# Altium footprint library Analog Devices Footprints.PcbLib: 248 footprints (part 15 of 16)
Each footprint in its own frame and in the unit in brackets; x right, y up, seen from the top. Pads: shape width x height; smd on the part's side, far side on the other; paste and mask are expansions set on the pad; w line width, h text height; cw(c..) or ccw(c..) is an arc to the next point about the centre after c.
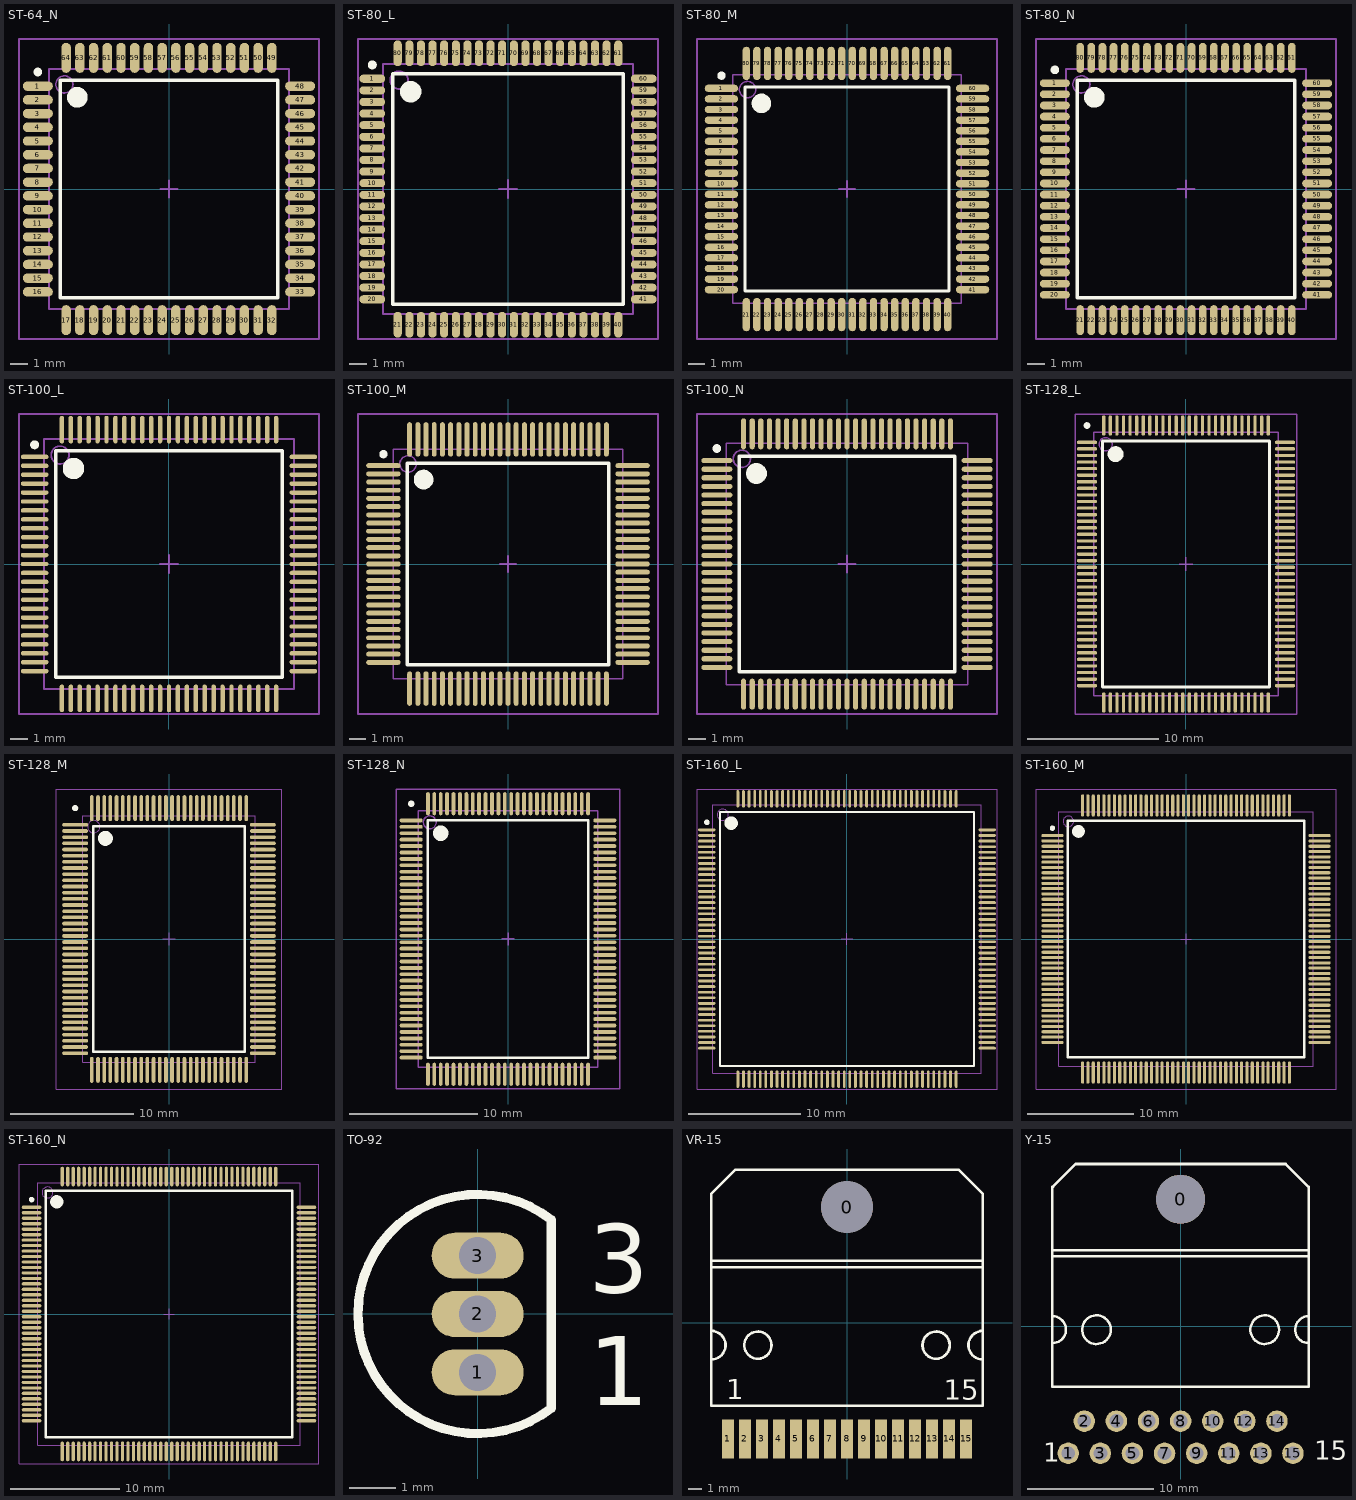
[diagram p14: the footprints below, top view; thin cyan lines are the x and y axes]

## ST-64_N [mm] "64-Pin Thin Quad Flat Pack 0.8 mm Pitch, IPC Medium Density"
height 1.6
pads (64):
  oval 1.75x0.55 smd: 1(-7.65,6) 2(-7.65,5.2) 3(-7.65,4.4) 4(-7.65,3.6) 5(-7.65,2.8) 6(-7.65,2) 7(-7.65,1.2) 8(-7.65,0.4) 9(-7.65,-0.4) 10(-7.65,-1.2) 11(-7.65,-2) 12(-7.65,-2.8) 13(-7.65,-3.6) 14(-7.65,-4.4) 15(-7.65,-5.2) 16(-7.65,-6) 33(7.65,-6) 34(7.65,-5.2) 35(7.65,-4.4) 36(7.65,-3.6) 37(7.65,-2.8) 38(7.65,-2) 39(7.65,-1.2) 40(7.65,-0.4) 41(7.65,0.4) 42(7.65,1.2) 43(7.65,2) 44(7.65,2.8) 45(7.65,3.6) 46(7.65,4.4) 47(7.65,5.2) 48(7.65,6)
  oval 0.55x1.75 smd: 17(-6,-7.65) 18(-5.2,-7.65) 19(-4.4,-7.65) 20(-3.6,-7.65) 21(-2.8,-7.65) 22(-2,-7.65) 23(-1.2,-7.65) 24(-0.4,-7.65) 25(0.4,-7.65) 26(1.2,-7.65) 27(2,-7.65) 28(2.8,-7.65) 29(3.6,-7.65) 30(4.4,-7.65) 31(5.2,-7.65) 32(6,-7.65) 49(6,7.65) 50(5.2,7.65) 51(4.4,7.65) 52(3.6,7.65) 53(2.8,7.65) 54(2,7.65) 55(1.2,7.65) 56(0.4,7.65) 57(-0.4,7.65) 58(-1.2,7.65) 59(-2,7.65) 60(-2.8,7.65) 61(-3.6,7.65) 62(-4.4,7.65) 63(-5.2,7.65) 64(-6,7.65)
Top Overlay:
  circle w0.25: c-7.65,6.825 r0.125
  circle w0.6: c-5.35,5.35 r0.3
  lines w0.2: -6.35,-6.35 -6.35,6.35 6.35,6.35 6.35,-6.35 -6.35,-6.35
Mechanical 13:
  circle w0.1: c-6.1,6.1 r0.5
  lines w0.1: -7,-7 -7,7 7,7 7,-7 -7,-7
Mechanical 15:
  lines w0.1: -0.5,0 0.5,0 ; 0,-0.5 0,0.5 ; -8.75,-8.75 -8.75,8.75 8.75,8.75 8.75,-8.75 -8.75,-8.75
3D body: height 1.6, standoff 0, extent -7,-7 7,7

## ST-80_L [mm] "80-Pin Thin Quad Flat Pack 0.65 mm Pitch, IPC High Density"
height 1.6
pads (80):
  oval 1.45x0.45 smd: 1(-7.6,6.175) 2(-7.6,5.525) 3(-7.6,4.875) 4(-7.6,4.225) 5(-7.6,3.575) 6(-7.6,2.925) 7(-7.6,2.275) 8(-7.6,1.625) 9(-7.6,0.975) 10(-7.6,0.325) 11(-7.6,-0.325) 12(-7.6,-0.975) 13(-7.6,-1.625) 14(-7.6,-2.275) 15(-7.6,-2.925) 16(-7.6,-3.575) 17(-7.6,-4.225) 18(-7.6,-4.875) 19(-7.6,-5.525) 20(-7.6,-6.175) 41(7.6,-6.175) 42(7.6,-5.525) 43(7.6,-4.875) 44(7.6,-4.225) 45(7.6,-3.575) 46(7.6,-2.925) 47(7.6,-2.275) 48(7.6,-1.625) 49(7.6,-0.975) 50(7.6,-0.325) 51(7.6,0.325) 52(7.6,0.975) 53(7.6,1.625) 54(7.6,2.275) 55(7.6,2.925) 56(7.6,3.575) 57(7.6,4.225) 58(7.6,4.875) 59(7.6,5.525) 60(7.6,6.175)
  oval 0.45x1.45 smd: 21(-6.175,-7.6) 22(-5.525,-7.6) 23(-4.875,-7.6) 24(-4.225,-7.6) 25(-3.575,-7.6) 26(-2.925,-7.6) 27(-2.275,-7.6) 28(-1.625,-7.6) 29(-0.975,-7.6) 30(-0.325,-7.6) 31(0.325,-7.6) 32(0.975,-7.6) 33(1.625,-7.6) 34(2.275,-7.6) 35(2.925,-7.6) 36(3.575,-7.6) 37(4.225,-7.6) 38(4.875,-7.6) 39(5.525,-7.6) 40(6.175,-7.6) 61(6.175,7.6) 62(5.525,7.6) 63(4.875,7.6) 64(4.225,7.6) 65(3.575,7.6) 66(2.925,7.6) 67(2.275,7.6) 68(1.625,7.6) 69(0.975,7.6) 70(0.325,7.6) 71(-0.325,7.6) 72(-0.975,7.6) 73(-1.625,7.6) 74(-2.275,7.6) 75(-2.925,7.6) 76(-3.575,7.6) 77(-4.225,7.6) 78(-4.875,7.6) 79(-5.525,7.6) 80(-6.175,7.6)
Top Overlay:
  circle w0.25: c-7.6,6.95 r0.125
  circle w0.6: c-5.45,5.45 r0.3
  lines w0.2: -6.45,-6.45 -6.45,6.45 6.45,6.45 6.45,-6.45 -6.45,-6.45
Mechanical 13:
  circle w0.1: c-6.1,6.1 r0.5
  lines w0.1: -7,-7 -7,7 7,7 7,-7 -7,-7
Mechanical 15:
  lines w0.1: -0.5,0 0.5,0 ; 0,-0.5 0,0.5 ; -8.4,-8.4 -8.4,8.4 8.4,8.4 8.4,-8.4 -8.4,-8.4
3D body: height 1.6, standoff 0, extent -7,-7 7,7

## ST-80_M [mm] "80-Pin Thin Quad Flat Pack 0.65 mm Pitch, IPC Low Density"
height 1.6
pads (80):
  oval 2.05x0.45 smd: 1(-7.7,6.175) 2(-7.7,5.525) 3(-7.7,4.875) 4(-7.7,4.225) 5(-7.7,3.575) 6(-7.7,2.925) 7(-7.7,2.275) 8(-7.7,1.625) 9(-7.7,0.975) 10(-7.7,0.325) 11(-7.7,-0.325) 12(-7.7,-0.975) 13(-7.7,-1.625) 14(-7.7,-2.275) 15(-7.7,-2.925) 16(-7.7,-3.575) 17(-7.7,-4.225) 18(-7.7,-4.875) 19(-7.7,-5.525) 20(-7.7,-6.175) 41(7.7,-6.175) 42(7.7,-5.525) 43(7.7,-4.875) 44(7.7,-4.225) 45(7.7,-3.575) 46(7.7,-2.925) 47(7.7,-2.275) 48(7.7,-1.625) 49(7.7,-0.975) 50(7.7,-0.325) 51(7.7,0.325) 52(7.7,0.975) 53(7.7,1.625) 54(7.7,2.275) 55(7.7,2.925) 56(7.7,3.575) 57(7.7,4.225) 58(7.7,4.875) 59(7.7,5.525) 60(7.7,6.175)
  oval 0.45x2.05 smd: 21(-6.175,-7.7) 22(-5.525,-7.7) 23(-4.875,-7.7) 24(-4.225,-7.7) 25(-3.575,-7.7) 26(-2.925,-7.7) 27(-2.275,-7.7) 28(-1.625,-7.7) 29(-0.975,-7.7) 30(-0.325,-7.7) 31(0.325,-7.7) 32(0.975,-7.7) 33(1.625,-7.7) 34(2.275,-7.7) 35(2.925,-7.7) 36(3.575,-7.7) 37(4.225,-7.7) 38(4.875,-7.7) 39(5.525,-7.7) 40(6.175,-7.7) 61(6.175,7.7) 62(5.525,7.7) 63(4.875,7.7) 64(4.225,7.7) 65(3.575,7.7) 66(2.925,7.7) 67(2.275,7.7) 68(1.625,7.7) 69(0.975,7.7) 70(0.325,7.7) 71(-0.325,7.7) 72(-0.975,7.7) 73(-1.625,7.7) 74(-2.275,7.7) 75(-2.925,7.7) 76(-3.575,7.7) 77(-4.225,7.7) 78(-4.875,7.7) 79(-5.525,7.7) 80(-6.175,7.7)
Top Overlay:
  circle w0.6: c-5.25,5.25 r0.3
  circle w0.25: c-7.7,6.95 r0.125
  lines w0.2: -6.25,-6.25 6.25,-6.25 6.25,6.25 -6.25,6.25 -6.25,-6.25
Mechanical 13:
  circle w0.1: c-6.1,6.1 r0.5
  lines w0.1: -7,-7 7,-7 7,7 -7,7 -7,-7
Mechanical 15:
  lines w0.1: -0.5,0 0.5,0 ; 0,-0.5 0,0.5 ; -9.2,-9.2 9.2,-9.2 9.2,9.2 -9.2,9.2 -9.2,-9.2
3D body: height 1.6, standoff 0, extent -7,-7 7,7

## ST-80_N [mm] "80-Pin Thin Quad Flat Pack 0.65 mm Pitch, IPC Medium Density"
height 1.6
pads (80):
  oval 1.75x0.45 smd: 1(-7.65,6.175) 2(-7.65,5.525) 3(-7.65,4.875) 4(-7.65,4.225) 5(-7.65,3.575) 6(-7.65,2.925) 7(-7.65,2.275) 8(-7.65,1.625) 9(-7.65,0.975) 10(-7.65,0.325) 11(-7.65,-0.325) 12(-7.65,-0.975) 13(-7.65,-1.625) 14(-7.65,-2.275) 15(-7.65,-2.925) 16(-7.65,-3.575) 17(-7.65,-4.225) 18(-7.65,-4.875) 19(-7.65,-5.525) 20(-7.65,-6.175) 41(7.65,-6.175) 42(7.65,-5.525) 43(7.65,-4.875) 44(7.65,-4.225) 45(7.65,-3.575) 46(7.65,-2.925) 47(7.65,-2.275) 48(7.65,-1.625) 49(7.65,-0.975) 50(7.65,-0.325) 51(7.65,0.325) 52(7.65,0.975) 53(7.65,1.625) 54(7.65,2.275) 55(7.65,2.925) 56(7.65,3.575) 57(7.65,4.225) 58(7.65,4.875) 59(7.65,5.525) 60(7.65,6.175)
  oval 0.45x1.75 smd: 21(-6.175,-7.65) 22(-5.525,-7.65) 23(-4.875,-7.65) 24(-4.225,-7.65) 25(-3.575,-7.65) 26(-2.925,-7.65) 27(-2.275,-7.65) 28(-1.625,-7.65) 29(-0.975,-7.65) 30(-0.325,-7.65) 31(0.325,-7.65) 32(0.975,-7.65) 33(1.625,-7.65) 34(2.275,-7.65) 35(2.925,-7.65) 36(3.575,-7.65) 37(4.225,-7.65) 38(4.875,-7.65) 39(5.525,-7.65) 40(6.175,-7.65) 61(6.175,7.65) 62(5.525,7.65) 63(4.875,7.65) 64(4.225,7.65) 65(3.575,7.65) 66(2.925,7.65) 67(2.275,7.65) 68(1.625,7.65) 69(0.975,7.65) 70(0.325,7.65) 71(-0.325,7.65) 72(-0.975,7.65) 73(-1.625,7.65) 74(-2.275,7.65) 75(-2.925,7.65) 76(-3.575,7.65) 77(-4.225,7.65) 78(-4.875,7.65) 79(-5.525,7.65) 80(-6.175,7.65)
Top Overlay:
  circle w0.25: c-7.65,6.95 r0.125
  circle w0.6: c-5.35,5.35 r0.3
  lines w0.2: -6.35,-6.35 -6.35,6.35 6.35,6.35 6.35,-6.35 -6.35,-6.35
Mechanical 13:
  circle w0.1: c-6.1,6.1 r0.5
  lines w0.1: -7,-7 -7,7 7,7 7,-7 -7,-7
Mechanical 15:
  lines w0.1: -0.5,0 0.5,0 ; 0,-0.5 0,0.5 ; -8.75,-8.75 -8.75,8.75 8.75,8.75 8.75,-8.75 -8.75,-8.75
3D body: height 1.6, standoff 0, extent -7,-7 7,7

## ST-100_L [mm] "100-Pin Thin Plastic Quad Flat Pack 0.5 mm Pitch, IPC High Density"
height 1.6
pads (100):
  oval 1.55x0.25 smd: 1(-7.525,6) 2(-7.525,5.5) 3(-7.525,5) 4(-7.525,4.5) 5(-7.525,4) 6(-7.525,3.5) 7(-7.525,3) 8(-7.525,2.5) 9(-7.525,2) 10(-7.525,1.5) 11(-7.525,1) 12(-7.525,0.5) 13(-7.525,0) 14(-7.525,-0.5) 15(-7.525,-1) 16(-7.525,-1.5) 17(-7.525,-2) 18(-7.525,-2.5) 19(-7.525,-3) 20(-7.525,-3.5) 21(-7.525,-4) 22(-7.525,-4.5) 23(-7.525,-5) 24(-7.525,-5.5) 25(-7.525,-6) 51(7.525,-6) 52(7.525,-5.5) 53(7.525,-5) 54(7.525,-4.5) 55(7.525,-4) 56(7.525,-3.5) 57(7.525,-3) 58(7.525,-2.5) 59(7.525,-2) 60(7.525,-1.5) 61(7.525,-1) 62(7.525,-0.5) 63(7.525,0) 64(7.525,0.5) 65(7.525,1) 66(7.525,1.5) 67(7.525,2) 68(7.525,2.5) 69(7.525,3) 70(7.525,3.5) 71(7.525,4) 72(7.525,4.5) 73(7.525,5) 74(7.525,5.5) 75(7.525,6)
  oval 0.25x1.55 smd: 26(-6,-7.525) 27(-5.5,-7.525) 28(-5,-7.525) 29(-4.5,-7.525) 30(-4,-7.525) 31(-3.5,-7.525) 32(-3,-7.525) 33(-2.5,-7.525) 34(-2,-7.525) 35(-1.5,-7.525) 36(-1,-7.525) 37(-0.5,-7.525) 38(0,-7.525) 39(0.5,-7.525) 40(1,-7.525) 41(1.5,-7.525) 42(2,-7.525) 43(2.5,-7.525) 44(3,-7.525) 45(3.5,-7.525) 46(4,-7.525) 47(4.5,-7.525) 48(5,-7.525) 49(5.5,-7.525) 50(6,-7.525) 76(6,7.525) 77(5.5,7.525) 78(5,7.525) 79(4.5,7.525) 80(4,7.525) 81(3.5,7.525) 82(3,7.525) 83(2.5,7.525) 84(2,7.525) 85(1.5,7.525) 86(1,7.525) 87(0.5,7.525) 88(0,7.525) 89(-0.5,7.525) 90(-1,7.525) 91(-1.5,7.525) 92(-2,7.525) 93(-2.5,7.525) 94(-3,7.525) 95(-3.5,7.525) 96(-4,7.525) 97(-4.5,7.525) 98(-5,7.525) 99(-5.5,7.525) 100(-6,7.525)
Top Overlay:
  circle w0.6: c-5.35,5.35 r0.3
  circle w0.25: c-7.525,6.675 r0.125
  lines w0.2: -6.35,-6.35 6.35,-6.35 6.35,6.35 -6.35,6.35 -6.35,-6.35
Mechanical 13:
  circle w0.1: c-6.1,6.1 r0.5
  lines w0.1: -7,-7 7,-7 7,7 -7,7 -7,-7
Mechanical 15:
  lines w0.1: -0.5,0 0.5,0 ; 0,-0.5 0,0.5 ; -8.4,-8.4 8.4,-8.4 8.4,8.4 -8.4,8.4 -8.4,-8.4
3D body: height 1.6, standoff 0, extent -7,-7 7,7

## ST-100_M [mm] "100-Pin Thin Plastic Quad Flat Pack 0.5 mm Pitch, IPC Low Density"
height 1.6
pads (100):
  oval 2.1x0.3 smd: 1(-7.6,6) 2(-7.6,5.5) 3(-7.6,5) 4(-7.6,4.5) 5(-7.6,4) 6(-7.6,3.5) 7(-7.6,3) 8(-7.6,2.5) 9(-7.6,2) 10(-7.6,1.5) 11(-7.6,1) 12(-7.6,0.5) 13(-7.6,0) 14(-7.6,-0.5) 15(-7.6,-1) 16(-7.6,-1.5) 17(-7.6,-2) 18(-7.6,-2.5) 19(-7.6,-3) 20(-7.6,-3.5) 21(-7.6,-4) 22(-7.6,-4.5) 23(-7.6,-5) 24(-7.6,-5.5) 25(-7.6,-6) 51(7.6,-6) 52(7.6,-5.5) 53(7.6,-5) 54(7.6,-4.5) 55(7.6,-4) 56(7.6,-3.5) 57(7.6,-3) 58(7.6,-2.5) 59(7.6,-2) 60(7.6,-1.5) 61(7.6,-1) 62(7.6,-0.5) 63(7.6,0) 64(7.6,0.5) 65(7.6,1) 66(7.6,1.5) 67(7.6,2) 68(7.6,2.5) 69(7.6,3) 70(7.6,3.5) 71(7.6,4) 72(7.6,4.5) 73(7.6,5) 74(7.6,5.5) 75(7.6,6)
  oval 0.3x2.1 smd: 26(-6,-7.6) 27(-5.5,-7.6) 28(-5,-7.6) 29(-4.5,-7.6) 30(-4,-7.6) 31(-3.5,-7.6) 32(-3,-7.6) 33(-2.5,-7.6) 34(-2,-7.6) 35(-1.5,-7.6) 36(-1,-7.6) 37(-0.5,-7.6) 38(0,-7.6) 39(0.5,-7.6) 40(1,-7.6) 41(1.5,-7.6) 42(2,-7.6) 43(2.5,-7.6) 44(3,-7.6) 45(3.5,-7.6) 46(4,-7.6) 47(4.5,-7.6) 48(5,-7.6) 49(5.5,-7.6) 50(6,-7.6) 76(6,7.6) 77(5.5,7.6) 78(5,7.6) 79(4.5,7.6) 80(4,7.6) 81(3.5,7.6) 82(3,7.6) 83(2.5,7.6) 84(2,7.6) 85(1.5,7.6) 86(1,7.6) 87(0.5,7.6) 88(0,7.6) 89(-0.5,7.6) 90(-1,7.6) 91(-1.5,7.6) 92(-2,7.6) 93(-2.5,7.6) 94(-3,7.6) 95(-3.5,7.6) 96(-4,7.6) 97(-4.5,7.6) 98(-5,7.6) 99(-5.5,7.6) 100(-6,7.6)
Top Overlay:
  circle w0.6: c-5.15,5.15 r0.3
  circle w0.25: c-7.6,6.7 r0.125
  lines w0.2: -6.15,-6.15 6.15,-6.15 6.15,6.15 -6.15,6.15 -6.15,-6.15
Mechanical 13:
  circle w0.1: c-6.1,6.1 r0.5
  lines w0.1: -7,-7 7,-7 7,7 -7,7 -7,-7
Mechanical 15:
  lines w0.1: -0.5,0 0.5,0 ; 0,-0.5 0,0.5 ; -9.15,-9.15 9.15,-9.15 9.15,9.15 -9.15,9.15 -9.15,-9.15
3D body: height 1.6, standoff 0, extent -7,-7 7,7

## ST-100_N [mm] "100-Pin Thin Plastic Quad Flat Pack 0.5 mm Pitch, IPC Medium Density"
height 1.6
pads (100):
  oval 1.8x0.3 smd: 1(-7.55,6) 2(-7.55,5.5) 3(-7.55,5) 4(-7.55,4.5) 5(-7.55,4) 6(-7.55,3.5) 7(-7.55,3) 8(-7.55,2.5) 9(-7.55,2) 10(-7.55,1.5) 11(-7.55,1) 12(-7.55,0.5) 13(-7.55,0) 14(-7.55,-0.5) 15(-7.55,-1) 16(-7.55,-1.5) 17(-7.55,-2) 18(-7.55,-2.5) 19(-7.55,-3) 20(-7.55,-3.5) 21(-7.55,-4) 22(-7.55,-4.5) 23(-7.55,-5) 24(-7.55,-5.5) 25(-7.55,-6) 51(7.55,-6) 52(7.55,-5.5) 53(7.55,-5) 54(7.55,-4.5) 55(7.55,-4) 56(7.55,-3.5) 57(7.55,-3) 58(7.55,-2.5) 59(7.55,-2) 60(7.55,-1.5) 61(7.55,-1) 62(7.55,-0.5) 63(7.55,0) 64(7.55,0.5) 65(7.55,1) 66(7.55,1.5) 67(7.55,2) 68(7.55,2.5) 69(7.55,3) 70(7.55,3.5) 71(7.55,4) 72(7.55,4.5) 73(7.55,5) 74(7.55,5.5) 75(7.55,6)
  oval 0.3x1.8 smd: 26(-6,-7.55) 27(-5.5,-7.55) 28(-5,-7.55) 29(-4.5,-7.55) 30(-4,-7.55) 31(-3.5,-7.55) 32(-3,-7.55) 33(-2.5,-7.55) 34(-2,-7.55) 35(-1.5,-7.55) 36(-1,-7.55) 37(-0.5,-7.55) 38(0,-7.55) 39(0.5,-7.55) 40(1,-7.55) 41(1.5,-7.55) 42(2,-7.55) 43(2.5,-7.55) 44(3,-7.55) 45(3.5,-7.55) 46(4,-7.55) 47(4.5,-7.55) 48(5,-7.55) 49(5.5,-7.55) 50(6,-7.55) 76(6,7.55) 77(5.5,7.55) 78(5,7.55) 79(4.5,7.55) 80(4,7.55) 81(3.5,7.55) 82(3,7.55) 83(2.5,7.55) 84(2,7.55) 85(1.5,7.55) 86(1,7.55) 87(0.5,7.55) 88(0,7.55) 89(-0.5,7.55) 90(-1,7.55) 91(-1.5,7.55) 92(-2,7.55) 93(-2.5,7.55) 94(-3,7.55) 95(-3.5,7.55) 96(-4,7.55) 97(-4.5,7.55) 98(-5,7.55) 99(-5.5,7.55) 100(-6,7.55)
Top Overlay:
  circle w0.6: c-5.25,5.25 r0.3
  circle w0.25: c-7.55,6.7 r0.125
  lines w0.2: -6.25,-6.25 6.25,-6.25 6.25,6.25 -6.25,6.25 -6.25,-6.25
Mechanical 13:
  circle w0.1: c-6.1,6.1 r0.5
  lines w0.1: -7,-7 7,-7 7,7 -7,7 -7,-7
Mechanical 15:
  lines w0.1: -0.5,0 0.5,0 ; 0,-0.5 0,0.5 ; -8.7,-8.7 8.7,-8.7 8.7,8.7 -8.7,8.7 -8.7,-8.7
3D body: height 1.6, standoff 0, extent -7,-7 7,7

## ST-128_L [mm] "128-Pin Thin Quad Flat Pack Rectangular 0.5 mm Pitch, IPC High Density"
height 1.6
pads (128):
  oval 1.55x0.25 smd: 1(-7.525,9.25) 2(-7.525,8.75) 3(-7.525,8.25) 4(-7.525,7.75) 5(-7.525,7.25) 6(-7.525,6.75) 7(-7.525,6.25) 8(-7.525,5.75) 9(-7.525,5.25) 10(-7.525,4.75) 11(-7.525,4.25) 12(-7.525,3.75) 13(-7.525,3.25) 14(-7.525,2.75) 15(-7.525,2.25) 16(-7.525,1.75) 17(-7.525,1.25) 18(-7.525,0.75) 19(-7.525,0.25) 20(-7.525,-0.25) 21(-7.525,-0.75) 22(-7.525,-1.25) 23(-7.525,-1.75) 24(-7.525,-2.25) 25(-7.525,-2.75) 26(-7.525,-3.25) 27(-7.525,-3.75) 28(-7.525,-4.25) 29(-7.525,-4.75) 30(-7.525,-5.25) 31(-7.525,-5.75) 32(-7.525,-6.25) 33(-7.525,-6.75) 34(-7.525,-7.25) 35(-7.525,-7.75) 36(-7.525,-8.25) 37(-7.525,-8.75) 38(-7.525,-9.25) 65(7.525,-9.25) 66(7.525,-8.75) 67(7.525,-8.25) 68(7.525,-7.75) 69(7.525,-7.25) 70(7.525,-6.75) 71(7.525,-6.25) 72(7.525,-5.75) 73(7.525,-5.25) 74(7.525,-4.75) 75(7.525,-4.25) 76(7.525,-3.75) 77(7.525,-3.25) 78(7.525,-2.75) 79(7.525,-2.25) 80(7.525,-1.75) 81(7.525,-1.25) 82(7.525,-0.75) 83(7.525,-0.25) 84(7.525,0.25) 85(7.525,0.75) 86(7.525,1.25) 87(7.525,1.75) 88(7.525,2.25) 89(7.525,2.75) 90(7.525,3.25) 91(7.525,3.75) 92(7.525,4.25) 93(7.525,4.75) 94(7.525,5.25) 95(7.525,5.75) 96(7.525,6.25) 97(7.525,6.75) 98(7.525,7.25) 99(7.525,7.75) 100(7.525,8.25) 101(7.525,8.75) 102(7.525,9.25)
  oval 0.25x1.55 smd: 39(-6.25,-10.525) 40(-5.75,-10.525) 41(-5.25,-10.525) 42(-4.75,-10.525) 43(-4.25,-10.525) 44(-3.75,-10.525) 45(-3.25,-10.525) 46(-2.75,-10.525) 47(-2.25,-10.525) 48(-1.75,-10.525) 49(-1.25,-10.525) 50(-0.75,-10.525) 51(-0.25,-10.525) 52(0.25,-10.525) 53(0.75,-10.525) 54(1.25,-10.525) 55(1.75,-10.525) 56(2.25,-10.525) 57(2.75,-10.525) 58(3.25,-10.525) 59(3.75,-10.525) 60(4.25,-10.525) 61(4.75,-10.525) 62(5.25,-10.525) 63(5.75,-10.525) 64(6.25,-10.525) 103(6.25,10.525) 104(5.75,10.525) 105(5.25,10.525) 106(4.75,10.525) 107(4.25,10.525) 108(3.75,10.525) 109(3.25,10.525) 110(2.75,10.525) 111(2.25,10.525) 112(1.75,10.525) 113(1.25,10.525) 114(0.75,10.525) 115(0.25,10.525) 116(-0.25,10.525) 117(-0.75,10.525) 118(-1.25,10.525) 119(-1.75,10.525) 120(-2.25,10.525) 121(-2.75,10.525) 122(-3.25,10.525) 123(-3.75,10.525) 124(-4.25,10.525) 125(-4.75,10.525) 126(-5.25,10.525) 127(-5.75,10.525) 128(-6.25,10.525)
Top Overlay:
  circle w0.25: c-7.525,10.525 r0.125
  circle w0.6: c-5.35,8.35 r0.3
  lines w0.2: -6.35,-9.35 -6.35,9.35 6.35,9.35 6.35,-9.35 -6.35,-9.35
Mechanical 13:
  circle w0.1: c-6.1,9.1 r0.5
  lines w0.1: -7,-10 -7,10 7,10 7,-10 -7,-10
Mechanical 15:
  lines w0.1: -0.5,0 0.5,0 ; 0,-0.5 0,0.5 ; -8.4,-11.4 -8.4,11.4 8.4,11.4 8.4,-11.4 -8.4,-11.4
3D body: height 1.6, standoff 0, extent -7,-10 7,10

## ST-128_M [mm] "128-Pin Thin Quad Flat Pack Rectangular 0.5 mm Pitch, IPC Low Density"
height 1.6
pads (128):
  oval 2.1x0.3 smd: 1(-7.6,9.25) 2(-7.6,8.75) 3(-7.6,8.25) 4(-7.6,7.75) 5(-7.6,7.25) 6(-7.6,6.75) 7(-7.6,6.25) 8(-7.6,5.75) 9(-7.6,5.25) 10(-7.6,4.75) 11(-7.6,4.25) 12(-7.6,3.75) 13(-7.6,3.25) 14(-7.6,2.75) 15(-7.6,2.25) 16(-7.6,1.75) 17(-7.6,1.25) 18(-7.6,0.75) 19(-7.6,0.25) 20(-7.6,-0.25) 21(-7.6,-0.75) 22(-7.6,-1.25) 23(-7.6,-1.75) 24(-7.6,-2.25) 25(-7.6,-2.75) 26(-7.6,-3.25) 27(-7.6,-3.75) 28(-7.6,-4.25) 29(-7.6,-4.75) 30(-7.6,-5.25) 31(-7.6,-5.75) 32(-7.6,-6.25) 33(-7.6,-6.75) 34(-7.6,-7.25) 35(-7.6,-7.75) 36(-7.6,-8.25) 37(-7.6,-8.75) 38(-7.6,-9.25) 65(7.6,-9.25) 66(7.6,-8.75) 67(7.6,-8.25) 68(7.6,-7.75) 69(7.6,-7.25) 70(7.6,-6.75) 71(7.6,-6.25) 72(7.6,-5.75) 73(7.6,-5.25) 74(7.6,-4.75) 75(7.6,-4.25) 76(7.6,-3.75) 77(7.6,-3.25) 78(7.6,-2.75) 79(7.6,-2.25) 80(7.6,-1.75) 81(7.6,-1.25) 82(7.6,-0.75) 83(7.6,-0.25) 84(7.6,0.25) 85(7.6,0.75) 86(7.6,1.25) 87(7.6,1.75) 88(7.6,2.25) 89(7.6,2.75) 90(7.6,3.25) 91(7.6,3.75) 92(7.6,4.25) 93(7.6,4.75) 94(7.6,5.25) 95(7.6,5.75) 96(7.6,6.25) 97(7.6,6.75) 98(7.6,7.25) 99(7.6,7.75) 100(7.6,8.25) 101(7.6,8.75) 102(7.6,9.25)
  oval 0.3x2.1 smd: 39(-6.25,-10.6) 40(-5.75,-10.6) 41(-5.25,-10.6) 42(-4.75,-10.6) 43(-4.25,-10.6) 44(-3.75,-10.6) 45(-3.25,-10.6) 46(-2.75,-10.6) 47(-2.25,-10.6) 48(-1.75,-10.6) 49(-1.25,-10.6) 50(-0.75,-10.6) 51(-0.25,-10.6) 52(0.25,-10.6) 53(0.75,-10.6) 54(1.25,-10.6) 55(1.75,-10.6) 56(2.25,-10.6) 57(2.75,-10.6) 58(3.25,-10.6) 59(3.75,-10.6) 60(4.25,-10.6) 61(4.75,-10.6) 62(5.25,-10.6) 63(5.75,-10.6) 64(6.25,-10.6) 103(6.25,10.6) 104(5.75,10.6) 105(5.25,10.6) 106(4.75,10.6) 107(4.25,10.6) 108(3.75,10.6) 109(3.25,10.6) 110(2.75,10.6) 111(2.25,10.6) 112(1.75,10.6) 113(1.25,10.6) 114(0.75,10.6) 115(0.25,10.6) 116(-0.25,10.6) 117(-0.75,10.6) 118(-1.25,10.6) 119(-1.75,10.6) 120(-2.25,10.6) 121(-2.75,10.6) 122(-3.25,10.6) 123(-3.75,10.6) 124(-4.25,10.6) 125(-4.75,10.6) 126(-5.25,10.6) 127(-5.75,10.6) 128(-6.25,10.6)
Top Overlay:
  circle w0.6: c-5.15,8.15 r0.3
  circle w0.25: c-7.6,10.6 r0.125
  lines w0.2: -6.15,-9.15 6.15,-9.15 6.15,9.15 -6.15,9.15 -6.15,-9.15
Mechanical 13:
  circle w0.1: c-6.1,9.1 r0.5
  lines w0.1: -7,-10 7,-10 7,10 -7,10 -7,-10
Mechanical 15:
  lines w0.1: -0.5,0 0.5,0 ; 0,-0.5 0,0.5 ; -9.15,-12.15 9.15,-12.15 9.15,12.15 -9.15,12.15 -9.15,-12.15
3D body: height 1.6, standoff 0, extent -7,-10 7,10

## ST-128_N [mm] "128-Pin Thin Quad Flat Pack Rectangular 0.5 mm Pitch, IPC Medium Density"
height 1.6
pads (128):
  oval 1.8x0.3 smd: 1(-7.55,9.25) 2(-7.55,8.75) 3(-7.55,8.25) 4(-7.55,7.75) 5(-7.55,7.25) 6(-7.55,6.75) 7(-7.55,6.25) 8(-7.55,5.75) 9(-7.55,5.25) 10(-7.55,4.75) 11(-7.55,4.25) 12(-7.55,3.75) 13(-7.55,3.25) 14(-7.55,2.75) 15(-7.55,2.25) 16(-7.55,1.75) 17(-7.55,1.25) 18(-7.55,0.75) 19(-7.55,0.25) 20(-7.55,-0.25) 21(-7.55,-0.75) 22(-7.55,-1.25) 23(-7.55,-1.75) 24(-7.55,-2.25) 25(-7.55,-2.75) 26(-7.55,-3.25) 27(-7.55,-3.75) 28(-7.55,-4.25) 29(-7.55,-4.75) 30(-7.55,-5.25) 31(-7.55,-5.75) 32(-7.55,-6.25) 33(-7.55,-6.75) 34(-7.55,-7.25) 35(-7.55,-7.75) 36(-7.55,-8.25) 37(-7.55,-8.75) 38(-7.55,-9.25) 65(7.55,-9.25) 66(7.55,-8.75) 67(7.55,-8.25) 68(7.55,-7.75) 69(7.55,-7.25) 70(7.55,-6.75) 71(7.55,-6.25) 72(7.55,-5.75) 73(7.55,-5.25) 74(7.55,-4.75) 75(7.55,-4.25) 76(7.55,-3.75) 77(7.55,-3.25) 78(7.55,-2.75) 79(7.55,-2.25) 80(7.55,-1.75) 81(7.55,-1.25) 82(7.55,-0.75) 83(7.55,-0.25) 84(7.55,0.25) 85(7.55,0.75) 86(7.55,1.25) 87(7.55,1.75) 88(7.55,2.25) 89(7.55,2.75) 90(7.55,3.25) 91(7.55,3.75) 92(7.55,4.25) 93(7.55,4.75) 94(7.55,5.25) 95(7.55,5.75) 96(7.55,6.25) 97(7.55,6.75) 98(7.55,7.25) 99(7.55,7.75) 100(7.55,8.25) 101(7.55,8.75) 102(7.55,9.25)
  oval 0.3x1.8 smd: 39(-6.25,-10.55) 40(-5.75,-10.55) 41(-5.25,-10.55) 42(-4.75,-10.55) 43(-4.25,-10.55) 44(-3.75,-10.55) 45(-3.25,-10.55) 46(-2.75,-10.55) 47(-2.25,-10.55) 48(-1.75,-10.55) 49(-1.25,-10.55) 50(-0.75,-10.55) 51(-0.25,-10.55) 52(0.25,-10.55) 53(0.75,-10.55) 54(1.25,-10.55) 55(1.75,-10.55) 56(2.25,-10.55) 57(2.75,-10.55) 58(3.25,-10.55) 59(3.75,-10.55) 60(4.25,-10.55) 61(4.75,-10.55) 62(5.25,-10.55) 63(5.75,-10.55) 64(6.25,-10.55) 103(6.25,10.55) 104(5.75,10.55) 105(5.25,10.55) 106(4.75,10.55) 107(4.25,10.55) 108(3.75,10.55) 109(3.25,10.55) 110(2.75,10.55) 111(2.25,10.55) 112(1.75,10.55) 113(1.25,10.55) 114(0.75,10.55) 115(0.25,10.55) 116(-0.25,10.55) 117(-0.75,10.55) 118(-1.25,10.55) 119(-1.75,10.55) 120(-2.25,10.55) 121(-2.75,10.55) 122(-3.25,10.55) 123(-3.75,10.55) 124(-4.25,10.55) 125(-4.75,10.55) 126(-5.25,10.55) 127(-5.75,10.55) 128(-6.25,10.55)
Top Overlay:
  circle w0.6: c-5.25,8.25 r0.3
  circle w0.25: c-7.55,10.55 r0.125
  lines w0.2: -6.25,-9.25 6.25,-9.25 6.25,9.25 -6.25,9.25 -6.25,-9.25
Mechanical 13:
  circle w0.1: c-6.1,9.1 r0.5
  lines w0.1: -7,-10 7,-10 7,10 -7,10 -7,-10
Mechanical 15:
  lines w0.1: -0.5,0 0.5,0 ; 0,-0.5 0,0.5 ; -8.7,-11.7 8.7,-11.7 8.7,11.7 -8.7,11.7 -8.7,-11.7
3D body: height 1.6, standoff 0, extent -7,-10 7,10

## ST-160_L [mm] "160-Pin Thin Quad Flat Pack 0.5 mm Pitch, IPC High Density"
height 1.6
pads (160):
  oval 1.55x0.25 smd: 1(-12.525,9.75) 2(-12.525,9.25) 3(-12.525,8.75) 4(-12.525,8.25) 5(-12.525,7.75) 6(-12.525,7.25) 7(-12.525,6.75) 8(-12.525,6.25) 9(-12.525,5.75) 10(-12.525,5.25) 11(-12.525,4.75) 12(-12.525,4.25) 13(-12.525,3.75) 14(-12.525,3.25) 15(-12.525,2.75) 16(-12.525,2.25) 17(-12.525,1.75) 18(-12.525,1.25) 19(-12.525,0.75) 20(-12.525,0.25) 21(-12.525,-0.25) 22(-12.525,-0.75) 23(-12.525,-1.25) 24(-12.525,-1.75) 25(-12.525,-2.25) 26(-12.525,-2.75) 27(-12.525,-3.25) 28(-12.525,-3.75) 29(-12.525,-4.25) 30(-12.525,-4.75) 31(-12.525,-5.25) 32(-12.525,-5.75) 33(-12.525,-6.25) 34(-12.525,-6.75) 35(-12.525,-7.25) 36(-12.525,-7.75) 37(-12.525,-8.25) 38(-12.525,-8.75) 39(-12.525,-9.25) 40(-12.525,-9.75) 81(12.525,-9.75) 82(12.525,-9.25) 83(12.525,-8.75) 84(12.525,-8.25) 85(12.525,-7.75) 86(12.525,-7.25) 87(12.525,-6.75) 88(12.525,-6.25) 89(12.525,-5.75) 90(12.525,-5.25) 91(12.525,-4.75) 92(12.525,-4.25) 93(12.525,-3.75) 94(12.525,-3.25) 95(12.525,-2.75) 96(12.525,-2.25) 97(12.525,-1.75) 98(12.525,-1.25) 99(12.525,-0.75) 100(12.525,-0.25) 101(12.525,0.25) 102(12.525,0.75) 103(12.525,1.25) 104(12.525,1.75) 105(12.525,2.25) 106(12.525,2.75) 107(12.525,3.25) 108(12.525,3.75) 109(12.525,4.25) 110(12.525,4.75) 111(12.525,5.25) 112(12.525,5.75) 113(12.525,6.25) 114(12.525,6.75) 115(12.525,7.25) 116(12.525,7.75) 117(12.525,8.25) 118(12.525,8.75) 119(12.525,9.25) 120(12.525,9.75)
  oval 0.25x1.55 smd: 41(-9.75,-12.525) 42(-9.25,-12.525) 43(-8.75,-12.525) 44(-8.25,-12.525) 45(-7.75,-12.525) 46(-7.25,-12.525) 47(-6.75,-12.525) 48(-6.25,-12.525) 49(-5.75,-12.525) 50(-5.25,-12.525) 51(-4.75,-12.525) 52(-4.25,-12.525) 53(-3.75,-12.525) 54(-3.25,-12.525) 55(-2.75,-12.525) 56(-2.25,-12.525) 57(-1.75,-12.525) 58(-1.25,-12.525) 59(-0.75,-12.525) 60(-0.25,-12.525) 61(0.25,-12.525) 62(0.75,-12.525) 63(1.25,-12.525) 64(1.75,-12.525) 65(2.25,-12.525) 66(2.75,-12.525) 67(3.25,-12.525) 68(3.75,-12.525) 69(4.25,-12.525) 70(4.75,-12.525) 71(5.25,-12.525) 72(5.75,-12.525) 73(6.25,-12.525) 74(6.75,-12.525) 75(7.25,-12.525) 76(7.75,-12.525) 77(8.25,-12.525) 78(8.75,-12.525) 79(9.25,-12.525) 80(9.75,-12.525) 121(9.75,12.525) 122(9.25,12.525) 123(8.75,12.525) 124(8.25,12.525) 125(7.75,12.525) 126(7.25,12.525) 127(6.75,12.525) 128(6.25,12.525) 129(5.75,12.525) 130(5.25,12.525) 131(4.75,12.525) 132(4.25,12.525) 133(3.75,12.525) 134(3.25,12.525) 135(2.75,12.525) 136(2.25,12.525) 137(1.75,12.525) 138(1.25,12.525) 139(0.75,12.525) 140(0.25,12.525) 141(-0.25,12.525) 142(-0.75,12.525) 143(-1.25,12.525) 144(-1.75,12.525) 145(-2.25,12.525) 146(-2.75,12.525) 147(-3.25,12.525) 148(-3.75,12.525) 149(-4.25,12.525) 150(-4.75,12.525) 151(-5.25,12.525) 152(-5.75,12.525) 153(-6.25,12.525) 154(-6.75,12.525) 155(-7.25,12.525) 156(-7.75,12.525) 157(-8.25,12.525) 158(-8.75,12.525) 159(-9.25,12.525) 160(-9.75,12.525)
Top Overlay:
  circle w0.6: c-10.35,10.35 r0.3
  circle w0.25: c-12.525,10.425 r0.125
  lines w0.2: -11.35,-11.35 11.35,-11.35 11.35,11.35 -11.35,11.35 -11.35,-11.35
Mechanical 13:
  circle w0.1: c-11.1,11.1 r0.5
  lines w0.1: -12,-12 12,-12 12,12 -12,12 -12,-12
Mechanical 15:
  lines w0.1: -0.5,0 0.5,0 ; 0,-0.5 0,0.5 ; -13.4,-13.4 13.4,-13.4 13.4,13.4 -13.4,13.4 -13.4,-13.4
3D body: height 1.6, standoff 0, extent -12,-12 12,12

## ST-160_M [mm] "160-Pin Thin Quad Flat Pack 0.5 mm Pitch, IPC Low Density"
height 1.6
pads (160):
  oval 2.1x0.3 smd: 1(-12.6,9.75) 2(-12.6,9.25) 3(-12.6,8.75) 4(-12.6,8.25) 5(-12.6,7.75) 6(-12.6,7.25) 7(-12.6,6.75) 8(-12.6,6.25) 9(-12.6,5.75) 10(-12.6,5.25) 11(-12.6,4.75) 12(-12.6,4.25) 13(-12.6,3.75) 14(-12.6,3.25) 15(-12.6,2.75) 16(-12.6,2.25) 17(-12.6,1.75) 18(-12.6,1.25) 19(-12.6,0.75) 20(-12.6,0.25) 21(-12.6,-0.25) 22(-12.6,-0.75) 23(-12.6,-1.25) 24(-12.6,-1.75) 25(-12.6,-2.25) 26(-12.6,-2.75) 27(-12.6,-3.25) 28(-12.6,-3.75) 29(-12.6,-4.25) 30(-12.6,-4.75) 31(-12.6,-5.25) 32(-12.6,-5.75) 33(-12.6,-6.25) 34(-12.6,-6.75) 35(-12.6,-7.25) 36(-12.6,-7.75) 37(-12.6,-8.25) 38(-12.6,-8.75) 39(-12.6,-9.25) 40(-12.6,-9.75) 81(12.6,-9.75) 82(12.6,-9.25) 83(12.6,-8.75) 84(12.6,-8.25) 85(12.6,-7.75) 86(12.6,-7.25) 87(12.6,-6.75) 88(12.6,-6.25) 89(12.6,-5.75) 90(12.6,-5.25) 91(12.6,-4.75) 92(12.6,-4.25) 93(12.6,-3.75) 94(12.6,-3.25) 95(12.6,-2.75) 96(12.6,-2.25) 97(12.6,-1.75) 98(12.6,-1.25) 99(12.6,-0.75) 100(12.6,-0.25) 101(12.6,0.25) 102(12.6,0.75) 103(12.6,1.25) 104(12.6,1.75) 105(12.6,2.25) 106(12.6,2.75) 107(12.6,3.25) 108(12.6,3.75) 109(12.6,4.25) 110(12.6,4.75) 111(12.6,5.25) 112(12.6,5.75) 113(12.6,6.25) 114(12.6,6.75) 115(12.6,7.25) 116(12.6,7.75) 117(12.6,8.25) 118(12.6,8.75) 119(12.6,9.25) 120(12.6,9.75)
  oval 0.3x2.1 smd: 41(-9.75,-12.6) 42(-9.25,-12.6) 43(-8.75,-12.6) 44(-8.25,-12.6) 45(-7.75,-12.6) 46(-7.25,-12.6) 47(-6.75,-12.6) 48(-6.25,-12.6) 49(-5.75,-12.6) 50(-5.25,-12.6) 51(-4.75,-12.6) 52(-4.25,-12.6) 53(-3.75,-12.6) 54(-3.25,-12.6) 55(-2.75,-12.6) 56(-2.25,-12.6) 57(-1.75,-12.6) 58(-1.25,-12.6) 59(-0.75,-12.6) 60(-0.25,-12.6) 61(0.25,-12.6) 62(0.75,-12.6) 63(1.25,-12.6) 64(1.75,-12.6) 65(2.25,-12.6) 66(2.75,-12.6) 67(3.25,-12.6) 68(3.75,-12.6) 69(4.25,-12.6) 70(4.75,-12.6) 71(5.25,-12.6) 72(5.75,-12.6) 73(6.25,-12.6) 74(6.75,-12.6) 75(7.25,-12.6) 76(7.75,-12.6) 77(8.25,-12.6) 78(8.75,-12.6) 79(9.25,-12.6) 80(9.75,-12.6) 121(9.75,12.6) 122(9.25,12.6) 123(8.75,12.6) 124(8.25,12.6) 125(7.75,12.6) 126(7.25,12.6) 127(6.75,12.6) 128(6.25,12.6) 129(5.75,12.6) 130(5.25,12.6) 131(4.75,12.6) 132(4.25,12.6) 133(3.75,12.6) 134(3.25,12.6) 135(2.75,12.6) 136(2.25,12.6) 137(1.75,12.6) 138(1.25,12.6) 139(0.75,12.6) 140(0.25,12.6) 141(-0.25,12.6) 142(-0.75,12.6) 143(-1.25,12.6) 144(-1.75,12.6) 145(-2.25,12.6) 146(-2.75,12.6) 147(-3.25,12.6) 148(-3.75,12.6) 149(-4.25,12.6) 150(-4.75,12.6) 151(-5.25,12.6) 152(-5.75,12.6) 153(-6.25,12.6) 154(-6.75,12.6) 155(-7.25,12.6) 156(-7.75,12.6) 157(-8.25,12.6) 158(-8.75,12.6) 159(-9.25,12.6) 160(-9.75,12.6)
Top Overlay:
  circle w0.6: c-10.15,10.15 r0.3
  circle w0.25: c-12.6,10.45 r0.125
  lines w0.2: -11.15,-11.15 11.15,-11.15 11.15,11.15 -11.15,11.15 -11.15,-11.15
Mechanical 13:
  circle w0.1: c-11.1,11.1 r0.5
  lines w0.1: -12,-12 12,-12 12,12 -12,12 -12,-12
Mechanical 15:
  lines w0.1: -0.5,0 0.5,0 ; 0,-0.5 0,0.5 ; -14.15,-14.15 14.15,-14.15 14.15,14.15 -14.15,14.15 -14.15,-14.15
3D body: height 1.6, standoff 0, extent -12,-12 12,12

## ST-160_N [mm] "160-Pin Thin Quad Flat Pack 0.5 mm Pitch, IPC Medium Density"
height 1.6
pads (160):
  oval 1.8x0.3 smd: 1(-12.55,9.75) 2(-12.55,9.25) 3(-12.55,8.75) 4(-12.55,8.25) 5(-12.55,7.75) 6(-12.55,7.25) 7(-12.55,6.75) 8(-12.55,6.25) 9(-12.55,5.75) 10(-12.55,5.25) 11(-12.55,4.75) 12(-12.55,4.25) 13(-12.55,3.75) 14(-12.55,3.25) 15(-12.55,2.75) 16(-12.55,2.25) 17(-12.55,1.75) 18(-12.55,1.25) 19(-12.55,0.75) 20(-12.55,0.25) 21(-12.55,-0.25) 22(-12.55,-0.75) 23(-12.55,-1.25) 24(-12.55,-1.75) 25(-12.55,-2.25) 26(-12.55,-2.75) 27(-12.55,-3.25) 28(-12.55,-3.75) 29(-12.55,-4.25) 30(-12.55,-4.75) 31(-12.55,-5.25) 32(-12.55,-5.75) 33(-12.55,-6.25) 34(-12.55,-6.75) 35(-12.55,-7.25) 36(-12.55,-7.75) 37(-12.55,-8.25) 38(-12.55,-8.75) 39(-12.55,-9.25) 40(-12.55,-9.75) 81(12.55,-9.75) 82(12.55,-9.25) 83(12.55,-8.75) 84(12.55,-8.25) 85(12.55,-7.75) 86(12.55,-7.25) 87(12.55,-6.75) 88(12.55,-6.25) 89(12.55,-5.75) 90(12.55,-5.25) 91(12.55,-4.75) 92(12.55,-4.25) 93(12.55,-3.75) 94(12.55,-3.25) 95(12.55,-2.75) 96(12.55,-2.25) 97(12.55,-1.75) 98(12.55,-1.25) 99(12.55,-0.75) 100(12.55,-0.25) 101(12.55,0.25) 102(12.55,0.75) 103(12.55,1.25) 104(12.55,1.75) 105(12.55,2.25) 106(12.55,2.75) 107(12.55,3.25) 108(12.55,3.75) 109(12.55,4.25) 110(12.55,4.75) 111(12.55,5.25) 112(12.55,5.75) 113(12.55,6.25) 114(12.55,6.75) 115(12.55,7.25) 116(12.55,7.75) 117(12.55,8.25) 118(12.55,8.75) 119(12.55,9.25) 120(12.55,9.75)
  oval 0.3x1.8 smd: 41(-9.75,-12.55) 42(-9.25,-12.55) 43(-8.75,-12.55) 44(-8.25,-12.55) 45(-7.75,-12.55) 46(-7.25,-12.55) 47(-6.75,-12.55) 48(-6.25,-12.55) 49(-5.75,-12.55) 50(-5.25,-12.55) 51(-4.75,-12.55) 52(-4.25,-12.55) 53(-3.75,-12.55) 54(-3.25,-12.55) 55(-2.75,-12.55) 56(-2.25,-12.55) 57(-1.75,-12.55) 58(-1.25,-12.55) 59(-0.75,-12.55) 60(-0.25,-12.55) 61(0.25,-12.55) 62(0.75,-12.55) 63(1.25,-12.55) 64(1.75,-12.55) 65(2.25,-12.55) 66(2.75,-12.55) 67(3.25,-12.55) 68(3.75,-12.55) 69(4.25,-12.55) 70(4.75,-12.55) 71(5.25,-12.55) 72(5.75,-12.55) 73(6.25,-12.55) 74(6.75,-12.55) 75(7.25,-12.55) 76(7.75,-12.55) 77(8.25,-12.55) 78(8.75,-12.55) 79(9.25,-12.55) 80(9.75,-12.55) 121(9.75,12.55) 122(9.25,12.55) 123(8.75,12.55) 124(8.25,12.55) 125(7.75,12.55) 126(7.25,12.55) 127(6.75,12.55) 128(6.25,12.55) 129(5.75,12.55) 130(5.25,12.55) 131(4.75,12.55) 132(4.25,12.55) 133(3.75,12.55) 134(3.25,12.55) 135(2.75,12.55) 136(2.25,12.55) 137(1.75,12.55) 138(1.25,12.55) 139(0.75,12.55) 140(0.25,12.55) 141(-0.25,12.55) 142(-0.75,12.55) 143(-1.25,12.55) 144(-1.75,12.55) 145(-2.25,12.55) 146(-2.75,12.55) 147(-3.25,12.55) 148(-3.75,12.55) 149(-4.25,12.55) 150(-4.75,12.55) 151(-5.25,12.55) 152(-5.75,12.55) 153(-6.25,12.55) 154(-6.75,12.55) 155(-7.25,12.55) 156(-7.75,12.55) 157(-8.25,12.55) 158(-8.75,12.55) 159(-9.25,12.55) 160(-9.75,12.55)
Top Overlay:
  circle w0.6: c-10.25,10.25 r0.3
  circle w0.25: c-12.55,10.45 r0.125
  lines w0.2: -11.25,-11.25 11.25,-11.25 11.25,11.25 -11.25,11.25 -11.25,-11.25
Mechanical 13:
  circle w0.1: c-11.1,11.1 r0.5
  lines w0.1: -12,-12 12,-12 12,12 -12,12 -12,-12
Mechanical 15:
  lines w0.1: -0.5,0 0.5,0 ; 0,-0.5 0,0.5 ; -13.7,-13.7 13.7,-13.7 13.7,13.7 -13.7,13.7 -13.7,-13.7
3D body: height 1.6, standoff 0, extent -12,-12 12,12

## TO-92 [mm] "TO, Flat Index; 3 In-Line, Axial Leads; Body Dia. 5.1mm; Leads 0.48 x 0.48 mm (max)"
height 5.33
pads (3):
  oval 2x1 hole 0.8: 1(0,-1.27) 2(0,0) 3(0,1.27)
Top Overlay:
  lines w0.2: 1.601,-2.049 cw(c0,0) 1.601,2.049 ; 1.6,-1.99 1.6,1.99
  text "1" at 2.421,-1.979 h1.5
  text "3" at 2.421,0.467 h1.5

## VR-15 [mm] "TO, SM, Horizontal, Heatsink Mounted; 15 Leads; Pitch 1.27 mm"
height 4.62
pads (16):
  round 3.86 hole 3.86: 0(0,8.66)
  rect 0.9x2.9 smd: 1(-8.89,-8.66) 2(-7.62,-8.66) 3(-6.35,-8.66) 4(-5.08,-8.66) 5(-3.81,-8.66) 6(-2.54,-8.66) 7(-1.27,-8.66) 8(0,-8.66) 9(1.27,-8.66) 10(2.54,-8.66) 11(3.81,-8.66) 12(5.08,-8.66) 13(6.35,-8.66) 14(7.62,-8.66) 15(8.89,-8.66)
Top Overlay:
  circle w0.2: c-6.656,-1.656 r1.016
  circle w0.2: c6.656,-1.656 r1.016
  lines w0.2: -10.135,-2.722 ccw(c-10.135,-1.656) -10.135,-0.59 ; -10.135,4.17 10.135,4.17 ; -10.135,4.64 10.135,4.64 ; 10.13,9.66 8.34,11.45 -8.34,11.45 -10.13,9.66 -10.135,9.66 -10.135,-6.18 10.135,-6.18 10.135,9.66 ; 10.135,-2.722 cw(c10.135,-1.656) 10.135,-0.59
  text "1" at -9.012,-5.701 h1.5
  text "15" at 7.223,-5.741 h1.5

## Y-15 [mm] "TO, Thru-Hole, Horizontal, Heatsink Mounted; 15 Bent Staggered Leads; Pitch 1.27 mm"
height 4.62
pads (16):
  round 3.86 hole 3.86: 0(0,10.045)
  round 1.7 hole 1.1: 1(-8.89,-10.045) 2(-7.62,-7.505) 3(-6.35,-10.045) 4(-5.08,-7.505) 5(-3.81,-10.045) 6(-2.54,-7.505) 7(-1.27,-10.045) 8(0,-7.505) 9(1.27,-10.045) 10(2.54,-7.505) 11(3.81,-10.045) 12(5.08,-7.505) 13(6.35,-10.045) 14(7.62,-7.505) 15(8.89,-10.045)
Top Overlay:
  circle w0.2: c6.656,-0.271 r1.136
  circle w0.2: c-6.656,-0.271 r1.136
  lines w0.2: -10.135,-1.336 ccw(c-10.135,-0.271) -10.135,0.795 ; -10.135,5.555 10.135,5.555 ; -10.135,6.025 10.135,6.025 ; -10.135,11.05 -10.135,11.045 -10.135,-4.794 10.135,-4.795 10.135,11.045 ; -10.09,11.045 -8.3,12.836 8.3,12.836 10.09,11.045 ; 10.135,-1.336 cw(c10.135,-0.271) 10.135,0.795
  text "1" at -10.863,-10.731 h1.5
  text "15" at 10.554,-10.556 h1.5